# Altium schematic symbol library VJ2220Y103KXUSTX2.SchLib: 1 symbol
Pins are listed as number, name and electrical type; pins without a type are passive.

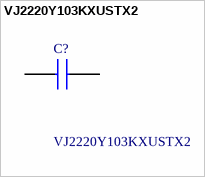
[diagram p0: symbol VJ2220Y103KXUSTX2]

## VJ2220Y103KXUSTX2
designator C?
Capacitor MLCC 2220 250Vac X2 10nF Vishay 10nF Multilayer Ceramic Capacitor (MLCC) 250 V ac +/-10% X7R dielectric VJ Surface Mount max op. temp. +125C; Geometry.Height: 2.18mm; Mouser Part Number: 77-VJ2220Y103KXUSTX2; Mouser Price/Stock: https://www.mouser.co.uk/ProductDetail/Vishay-Vitramon/VJ2220Y103KXUSTX2?qs=IbI7CwzxyWd9lEwhIfQA2A%3D%3D; Manufacturer_Name: Vishay; Manufacturer_Part_Number: VJ2220Y103KXUSTX2; Datasheet Link: https://datasheet.datasheetarchive.com/originals/distributors/Datasheets-DGA9/2510523.pdf
footprint CAPC5651X218N
pins: 1, 2